# EAGLE library part DAC770A (library M5STAMPS3)
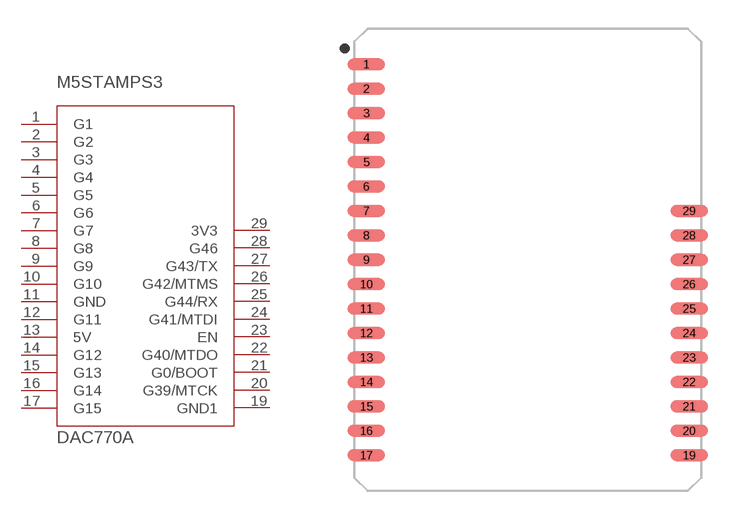
[diagram p0: symbol with the pads of QFN127P2400X1800X470-36N; footprint QFN127P2400X1800X470-36N]

Designator prefix U

## DAC770A  [QFN127P2400X1800X470-36N]
1  G1
2  G2
3  G3
4  G4
5  G5
6  G6
7  G7
8  G8
9  G9
10  G10
11  GND
12  G11
13  5V
14  G12
15  G13
16  G14
17  G15
19  GND1
20  G39/MTCK
21  G0/BOOT
22  G40/MTDO
23  EN  in
24  G41/MTDI
25  G44/RX
26  G42/MTMS
27  G43/TX
28  G46
29  3V3  out

## Footprint QFN127P2400X1800X470-36N (pad centres in mm)
36-QFN, 1.27 mm pitch, 24.00 X 18.00 X 4.70 mm body 36-pin QFN package with 1.27 mm pitch with body size 24.00 X 18.00 X 4.70 mm
smd 1.957 x 0.637: 1 -8.38,10.16; 2 -8.38,8.89; 3 -8.38,7.62; 4 -8.38,6.35; 5 -8.38,5.08; 6 -8.38,3.81; 7 -8.38,2.54; 8 -8.38,1.27; 9 -8.38,0; 10 -8.38,-1.27; 11 -8.38,-2.54; 12 -8.38,-3.81; 13 -8.38,-5.08; 14 -8.38,-6.35; 15 -8.38,-7.62; 16 -8.38,-8.89; 17 -8.38,-10.16; 19 8.38,-10.16; 20 8.38,-8.89; 21 8.38,-7.62; 22 8.38,-6.35; 23 8.38,-5.08; 24 8.38,-3.81; 25 8.38,-2.54; 26 8.38,-1.27; 27 8.38,0; 28 8.38,1.27; 29 8.38,2.54